# Altium schematic symbol library 2020-01-07_18-03-26.SchLib: 2 symbols
Pins are listed as number, name and electrical type; pins without a type are passive.

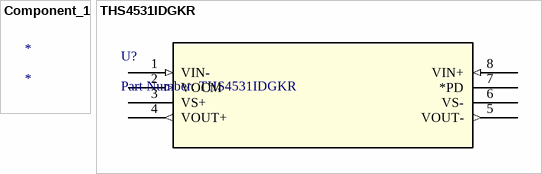
[diagram p0: symbols Component_1 to THS4531IDGKR]

## Component_1
designator *

## THS4531IDGKR
designator U?, comment Part Number: THS4531IDGKR
No Description Available; Vendor: Texas Instruments; Built_By: EMA_UL_Team; Manufacturer_Part_Number: THS4531IDGKR; Copyright: Copyright (C) 2018 Accelerated Designs. All rights reserved; RefDes: RefDes; Type: DEV; Value: Value
footprint DGK8
pins: 1 VIN- (in), 2 VOCM (in), 3 VS+ (power), 4 VOUT+ (out), 5 VOUT- (out), 6 VS- (power), 7 *PD (power), 8 VIN+ (in)